# Altium integrated library LIB2022 - Devices.IntLib: 2 symbols
Pins are listed as number, name and electrical type; pins without a type are passive.

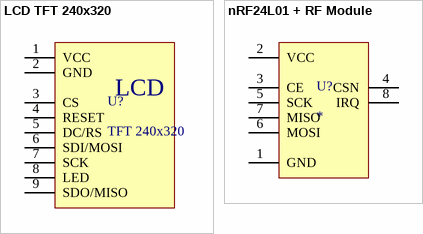
[diagram p0: symbols LCD TFT 240x320 to nRF24L01 + RF Module]

## LCD TFT 240x320
designator U?, comment TFT 240x320
footprint TFT2.5
pins: 1 VCC, 2 GND, 3 CS, 4 RESET, 5 DC/RS, 6 SDI/MOSI, 7 SCK, 8 LED, 9 SDO/MISO
text: LCD

## nRF24L01 + RF Module
designator U?
footprint nRF24L01+Module
pins: 1 GND, 2 VCC, 3 CE, 4 CSN, 5 SCK, 6 MOSI, 7 MISO, 8 IRQ